# Altium schematic symbol library RS-19.SchLib: 1 symbol
Pins are listed as number, name and electrical type; pins without a type are passive.

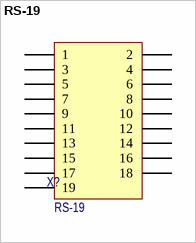
[diagram p0: symbol RS-19]

## RS-19
designator X?  (value not drawn)
RS-19, 19-pin, instrument plug of threaded connection.; Назначение: Connector for output of contacts to the front panel; Потребление, Вт: 0,0; Наименование: РС19
footprint RS-19
pins: 1, 2, 3, 4, 5, 6, 7, 8, 9, 10, 11, 12, 13, 14, 15, 16, 17, 18, 19